# Altium integrated library 901-10511-2.IntLib: 1 symbol
Pins are listed as number, name and electrical type; pins without a type are passive.

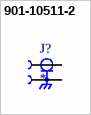
[diagram p0: symbol 901-10511-2]

## 901-10511-2
designator J?
SMA Straight End Launch Jack, .010 Pin, .068  PCB, Edge-Mount, High Frequency | Amphenol RF 901-10511-2; SnapEDA_Link: https://www.snapeda.com/parts/901-10511-2/Amphenol+RF/view-part/?ref=snap; Package: None; Value: *; MF: Amphenol RF; MP: 901-10511-2; Check_prices: https://www.snapeda.com/parts/901-10511-2/Amphenol+RF/view-part/?ref=eda
footprint AMPHENOL_901-10511-2
pins: 1, G1 2, G2 2